# EAGLE library part G2RL-1A-E (library Relay)
CONTACT TYPE : SPST COIL RATING : 5 to 48 VDC Datasheet <https://omronfs.omron.com/en_US/ecb/products/pdf/en-g2rl.pdf>
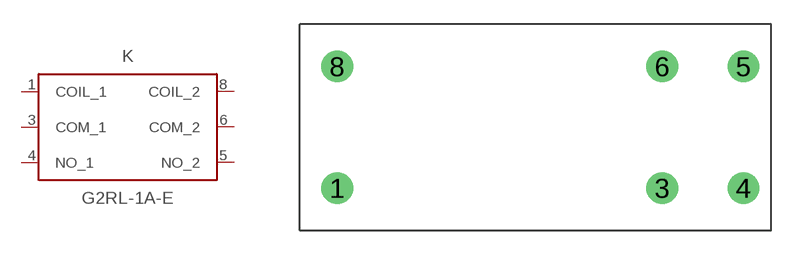
[diagram p0: symbol with the pads of G2RL-1A-E; footprint G2RL-1A-E]

Designator prefix K

## G2RL-1A-E (CATEGORY: RELAY; MANUFACTURER: OMRON; OPERATING_TEMP: 40°C to 85°C; PART_STATUS: ACTIVE; ROHS_COMPLIANCE: ROHS COMPLIANT; SERIES: G2RL; SUB-CATEGORY: Power Relay; TYPE: SPST; VALUE: G2RL), G2RL-1A-E-ASI (CATEGORY: RELAY; MANUFACTURER: OMRON; OPERATING_TEMP: 40°C to 85°C; PART_STATUS: ACTIVE; ROHS_COMPLIANCE: ROHS COMPLIANT; SERIES: G2RL; SUB-CATEGORY: Power Relay; TYPE: SPST; VALUE: G2RL), G2RL-1A-E-CV (CATEGORY: RELAY; MANUFACTURER: OMRON; OPERATING_TEMP: 40°C to 85°C; PART_STATUS: ACTIVE; ROHS_COMPLIANCE: ROHS COMPLIANT; SERIES: G2RL; SUB-CATEGORY: Power Relay; TYPE: SPST; VALUE: G2RL), G2RL-1A-E-CV-HA (CATEGORY: RELAY; MANUFACTURER: OMRON; OPERATING_TEMP: 40°C to 85°C; PART_STATUS: ACTIVE; ROHS_COMPLIANCE: ROHS COMPLIANT; SERIES: G2RL; SUB-CATEGORY: Power Relay; TYPE: SPST; VALUE: G2RL), G2RL-1A-E-E (CATEGORY: RELAY; MANUFACTURER: OMRON; OPERATING_TEMP: 40°C to 85°C; PART_STATUS: ACTIVE; ROHS_COMPLIANCE: ROHS COMPLIANT; SERIES: G2RL; SUB-CATEGORY: Power Relay; TYPE: SPST; VALUE: G2RL), G2RL-1A-E-HA (CATEGORY: RELAY; MANUFACTURER: OMRON; OPERATING_TEMP: 40°C to 85°C; PART_STATUS: ACTIVE; ROHS_COMPLIANCE: ROHS COMPLIANT; SERIES: G2RL; SUB-CATEGORY: Power Relay; TYPE: SPST; VALUE: G2RL)  [G2RL-1A-E]
1  COIL_1
3  COM_1
4  NO_1
5  NO_2
6  COM_2
8  COIL_2

## Footprint G2RL-1A-E (pad centres in mm)
drill 1.3: 1 0,0; 3 20,0; 4 25,0; 5 25,7.5; 6 20,7.5; 8 0,7.5